# Altium footprint library KAQY210AB.PcbLib: 1 footprints
Each footprint in its own frame and in the unit in brackets; x right, y up, seen from the top. Pads: shape width x height; smd on the part's side, far side on the other; paste and mask are expansions set on the pad; w line width, h text height; cw(c..) or ccw(c..) is an arc to the next point about the centre after c.
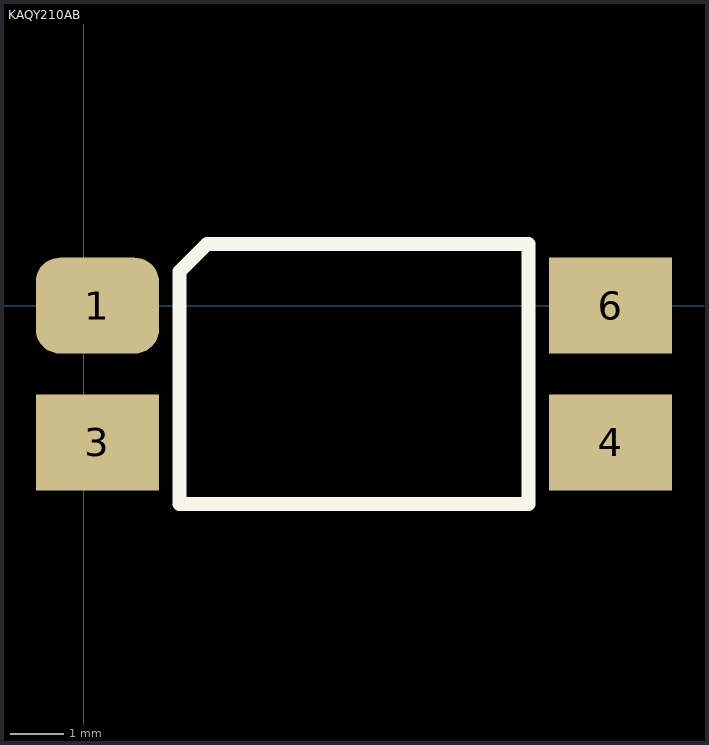
[diagram p0: the footprint, top view; thin cyan lines are the x and y axes]

## KAQY210AB [mil]
pads (4):
  rrect50% 90x70 smd: 1(10,0)
  rect 90x70 smd: 3(10,-100) 4(385,-100) 6(385,0)
Top Overlay:
  lines w10: 70,-145 70,25 90,45 325,45 325,-145 70,-145
3D body: height 138, standoff 0, extent 70,-145 325,45